# EAGLE library part TD6200 (library linear)
7CH DARLINGTON SINK DRIVER
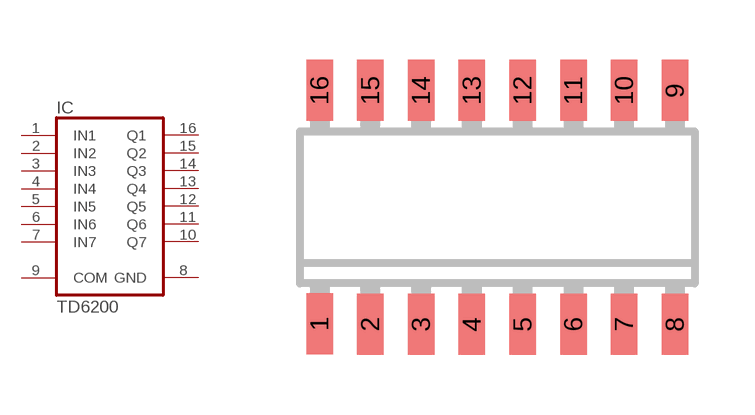
[diagram p259: symbol with the pads of SO16; footprint SO16]

Designator prefix IC

## TD6200  [SO16]
1  IN1  in
2  IN2  in
3  IN3  in
4  IN4  in
5  IN5  in
6  IN6  in
7  IN7  in
8  GND  out
9  COM  in
10  Q7  out
11  Q6  out
12  Q5  out
13  Q4  out
14  Q3  out
15  Q2  out
16  Q1  out

## Footprint SO16 (pad centres in mm)
Small Outline Package 16
smd 0.66 x 1.524: 1 -4.445,-2.906; 2 -3.175,-2.923; 3 -1.905,-2.923; 4 -0.635,-2.923; 5 0.635,-2.923; 6 1.905,-2.923; 7 3.175,-2.923; 8 4.445,-2.923; 9 4.445,2.923; 10 3.175,2.923; 11 1.905,2.923; 12 0.635,2.923; 13 -0.635,2.923; 14 -1.905,2.923; 15 -3.175,2.923; 16 -4.445,2.923